# Altium schematic symbol library mcp2221_i_sl.SchLib: 1 symbol
Pins are listed as number, name and electrical type; pins without a type are passive.

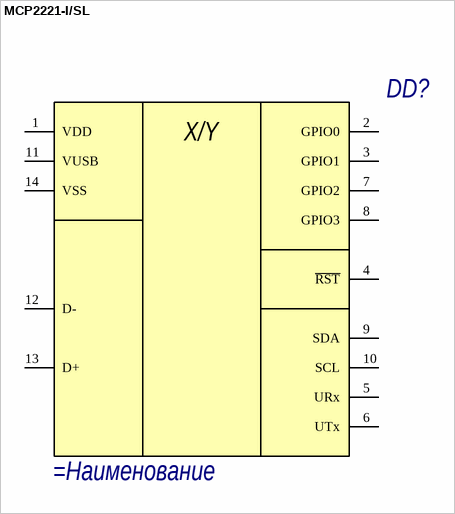
[diagram p0: symbol MCP2221-I/SL]

## MCP2221-I/SL
designator DD?
=Описание
pins: 1 VDD, 2 GPIO0, 3 GPIO1, 4 ~{RST}, 5 URx, 6 UTx, 7 GPIO2, 8 GPIO3, 9 SDA, 10 SCL, 11 VUSB, 12 D-, 13 D+, 14 VSS
text: X/Y